# EAGLE library part NRF52840-DONGLE (library shepherd)
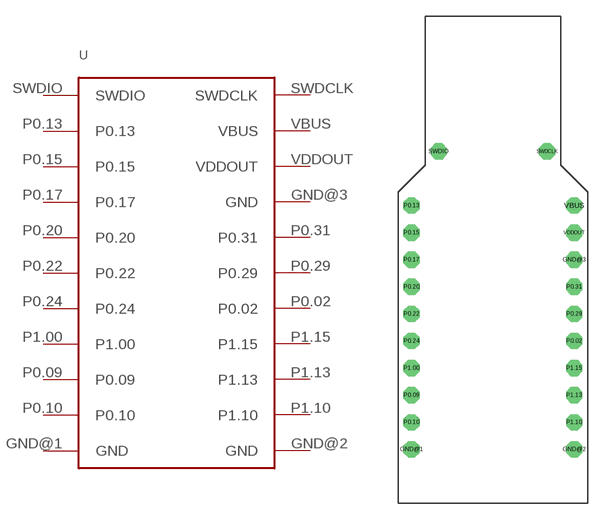
[diagram p20: symbol with the pads of NRF52840-DONGLE; footprint NRF52840-DONGLE]

Designator prefix -

## NRF52840-DONGLE  [NRF52840-DONGLE]
GND@1  GND  pwr
GND@2  GND  pwr
GND@3  GND  pwr
P0.02  P0.02
P0.09  P0.09
P0.10  P0.10
P0.13  P0.13
P0.15  P0.15
P0.17  P0.17
P0.20  P0.20
P0.22  P0.22
P0.24  P0.24
P0.29  P0.29
P0.31  P0.31
P1.00  P1.00
P1.10  P1.10
P1.13  P1.13
P1.15  P1.15
SWDCLK  SWDCLK
SWDIO  SWDIO
VBUS  VBUS
VDDOUT  VDDOUT

## Footprint NRF52840-DONGLE (pad centres in mm)
drill 1.016 octagon: GND@1 -7.62,-13.97; GND@2 7.62,-13.97; GND@3 7.62,3.81; P0.02 7.62,-3.81; P0.09 -7.62,-8.89; P0.10 -7.62,-11.43; P0.13 -7.62,8.89; P0.15 -7.62,6.35; P0.17 -7.62,3.81; P0.20 -7.62,1.27; P0.22 -7.62,-1.27; P0.24 -7.62,-3.81; P0.29 7.62,-1.27; P0.31 7.62,1.27; P1.00 -7.62,-6.35; P1.10 7.62,-11.43; P1.13 7.62,-8.89; P1.15 7.62,-6.35; SWDCLK 5.08,13.97; SWDIO -5.08,13.97; VBUS 7.62,8.89; VDDOUT 7.62,6.35